# Altium integrated library murata_15uh_ferrite_ind_1264EY-150M_P3.IntLib: 1 symbol
Pins are listed as number, name and electrical type; pins without a type are passive.

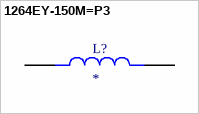
[diagram p0: symbol 1264EY-150M=P3]

## 1264EY-150M=P3
designator L?
Inductor Power Shielded Wirewound 22uH 20% 100KHz Ferrite 1.8A 132mOhm DCR 2424 T/R; MP: 1264EY-150M=P3; Package: None; Price: None; Value: *; Availability: Unavailable
footprint IND_1264EY-150M=P3
pins: 1, 2